# Altium footprint library footprints.PcbLib: 18 footprints (part 2 of 2)
Each footprint in its own frame and in the unit in brackets; x right, y up, seen from the top. Pads: shape width x height; smd on the part's side, far side on the other; paste and mask are expansions set on the pad; w line width, h text height; cw(c..) or ccw(c..) is an arc to the next point about the centre after c.
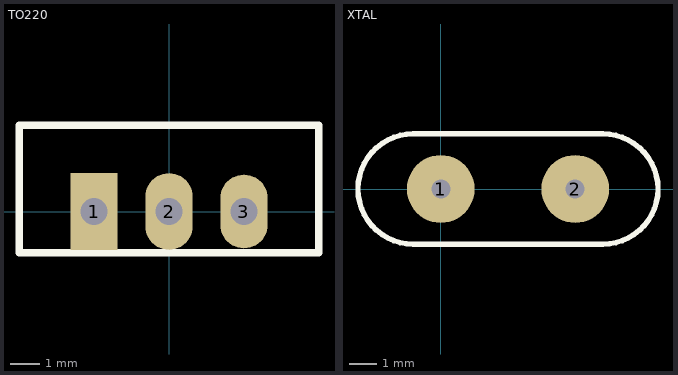
[diagram p1: the footprints below, top view; thin cyan lines are the x and y axes]

## TO220 [mm]
pads (3):
  rect 1.6x2.6 hole 0.9: 1(-2.54,0)
  oval 1.6x2.6 hole 0.9: 2(0,0)
  oval 1.6x2.5 hole 0.9: 3(2.54,0)
Top Overlay:
  lines w0.254: -5.08,0 -5.08,2.921 5.08,2.921 5.08,-1.397 2.54,-1.397 -2.54,-1.397 -5.08,-1.397 -5.08,1.397

## XTAL [mm] "10MHZ crystal"
pads (2):
  round 2.5 hole 0.7: 1(0,0) 2(4.953,0)
Top Overlay:
  lines w0.2: -1.016,-2.032 cw(c-1.016,0) -1.016,2.032 5.969,2.032 cw(c5.969,0) 5.969,-2.032 -1.016,-2.032